# Altium footprint library Footprints.PcbLib: 146 footprints (part 7 of 10)
Each footprint in its own frame and in the unit in brackets; x right, y up, seen from the top. Pads: shape width x height; smd on the part's side, far side on the other; paste and mask are expansions set on the pad; w line width, h text height; cw(c..) or ccw(c..) is an arc to the next point about the centre after c.
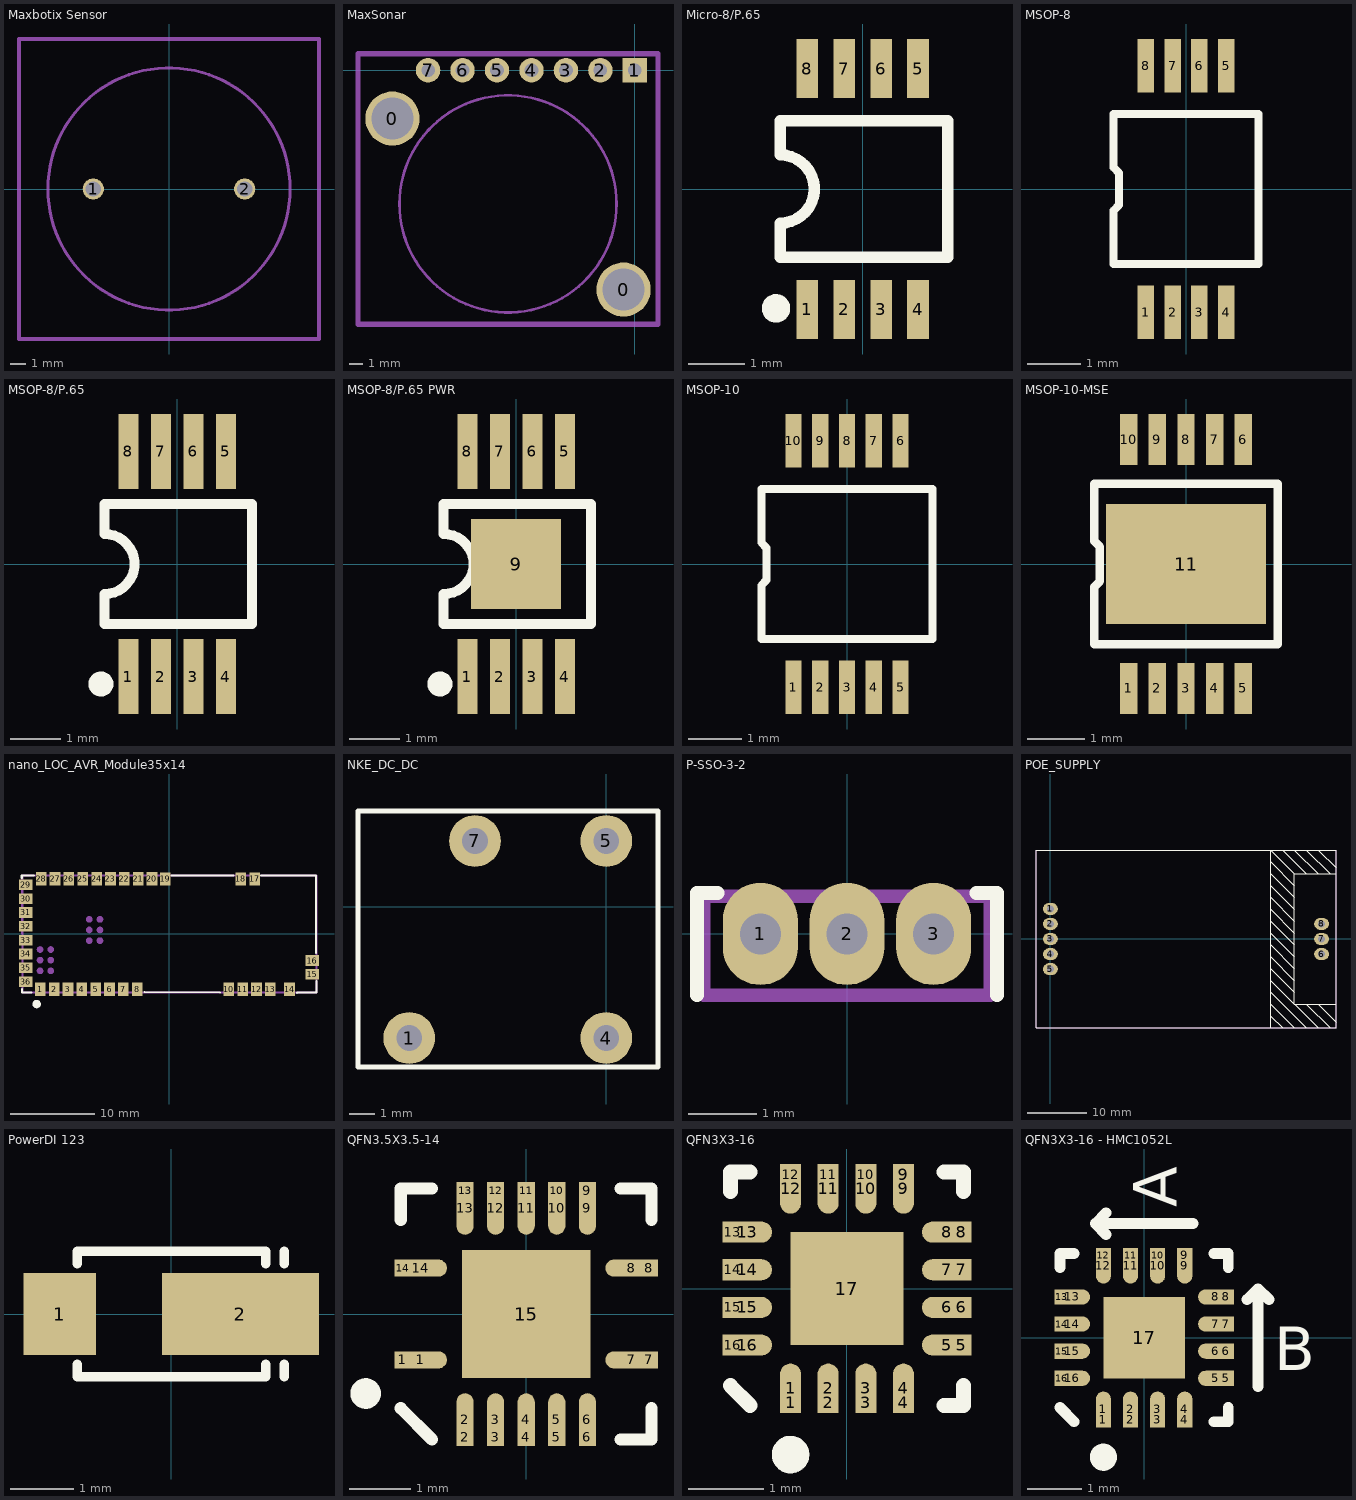
[diagram p6: the footprints below, top view; thin cyan lines are the x and y axes]

## Maxbotix Sensor [mm] "Maxbotix Ultrasonic Sensor"
height 16
pads (2):
  round 1.4 hole 1: 1(-5,0) 2(5,0)
Mechanical 1:
  circle w0.2: c0,0 r8
  lines w0.254: -9.906,-9.906 -9.906,9.906 9.906,9.906 9.906,-9.906 -9.906,-9.906

## MaxSonar [mm] "MaxSonar Module"
height 16
pads (9):
  round 4 hole 3.1: 0(-17.86,-3.56) 0(-0.84,-16.16)
  rect 1.8x1.8 hole 1: 1(0,0)
  round 1.8 hole 1: 2(-2.54,0) 3(-5.08,0) 4(-7.62,0) 5(-10.16,0) 6(-12.7,0) 7(-15.24,0)
Mechanical 1:
  circle w0.2: c-9.35,-9.85 r8
  lines w0.4: -20.4,-18.7 -20.4,1.2 1.7,1.2 1.7,-18.7 -20.4,-18.7

## Micro-8/P.65 [mm] "MSOP, Plastic; 8 Leads; Pitch 0.65 mm"
height 2
pads (8):
  rect 0.38x1.04 smd: 1(-0.975,-2.12) 2(-0.325,-2.12) 3(0.325,-2.12) 4(0.975,-2.12) 5(0.975,2.12) 6(0.325,2.12) 7(-0.325,2.12) 8(-0.975,2.12)
Top Overlay:
  circle w0.25: c-1.525,-2.1 r0.125
  lines w0.2: -1.45,-1.2 -1.45,-0.6 ccw(c-1.45,0) -1.45,0.6 -1.45,1.2 1.5,1.2 1.5,-1.2 -1.45,-1.2

## MSOP-8 [mm]
pads (8):
  rect 0.305x1 smd: 1(-0.75,-2.3) 2(-0.25,-2.3) 3(0.25,-2.3) 4(0.75,-2.3) 5(0.75,2.3) 6(0.25,2.3) 7(-0.25,2.3) 8(-0.75,2.3)
Top Overlay:
  lines w0.15: -1.35,-1.4 1.35,-1.4 1.35,1.4 -1.35,1.4 -1.35,0.4 -1.25,0.3 -1.25,-0.3 -1.35,-0.4 -1.35,-1.4

## MSOP-8/P.65 [mm] "MSOP, Plastic; 8 Leads; Pitch 0.65 mm"
height 2
pads (8):
  rect 0.4x1.5 smd: 1(-0.975,-2.25) 2(-0.325,-2.25) 3(0.325,-2.25) 4(0.975,-2.25) 5(0.975,2.25) 6(0.325,2.25) 7(-0.325,2.25) 8(-0.975,2.25)
Top Overlay:
  circle w0.25: c-1.525,-2.4 r0.125
  lines w0.2: -1.45,-1.2 -1.45,-0.6 ccw(c-1.45,0) -1.45,0.6 -1.45,1.2 1.5,1.2 1.5,-1.2 -1.45,-1.2

## MSOP-8/P.65 PWR [mm] "MSOP, Plastic; 8 Leads; Pitch 0.65 mm"
height 2
pads (9):
  rect 0.4x1.5 smd: 1(-0.975,-2.25) 2(-0.325,-2.25) 3(0.325,-2.25) 4(0.975,-2.25) 5(0.975,2.25) 6(0.325,2.25) 7(-0.325,2.25) 8(-0.975,2.25)
  rect 1.8x1.8 smd: 9(0,0)
Top Overlay:
  circle w0.25: c-1.525,-2.4 r0.125
  lines w0.2: -1.45,-1.2 -1.45,-0.6 ccw(c-1.45,0) -1.45,0.6 -1.45,1.2 1.5,1.2 1.5,-1.2 -1.45,-1.2

## MSOP-10 [mm]
pads (10):
  rect 0.305x1 smd: 1(-1,-2.3) 2(-0.5,-2.3) 3(0,-2.3) 4(0.5,-2.3) 5(1,-2.3) 6(1,2.3) 7(0.5,2.3) 8(0,2.3) 9(-0.5,2.3) 10(-1,2.3)
Top Overlay:
  lines w0.15: -1.6,-1.4 -1.6,-0.4 -1.5,-0.3 -1.5,0.3 -1.6,0.4 -1.6,1.4 1.6,1.4 1.6,-1.4 -1.6,-1.4

## MSOP-10-MSE [mm]
pads (11):
  rect 0.305x0.889 smd: 1(-1,-2.17) 2(-0.5,-2.17) 3(0,-2.17) 4(0.5,-2.17) 5(1,-2.17) 6(1,2.17) 7(0.5,2.17) 8(0,2.17) 9(-0.5,2.17) 10(-1,2.17)
  rect 2.794x2.083 smd: 11(0,0)
Top Overlay:
  lines w0.15: -1.6,-1.4 -1.6,-0.4 -1.5,-0.3 -1.5,0.3 -1.6,0.4 -1.6,1.4 1.6,1.4 1.6,-1.4 -1.6,-1.4

## nano_LOC_AVR_Module35x14 [mm] "Footprint for the nano_LOC_AVR_Module"
height 1.1
pads (47):
  round 0.8 on Mech1: 1(-15.37,-1.86) 2(-14.1,-1.86) 3(-14.1,-3.13) 4(-14.1,-4.4) 5(-15.37,-4.4) 6(-15.37,-3.13) 7(-9.5,1.74) 8(-8.23,1.74) 9(-8.23,0.47) 10(-8.23,-0.8) 11(-9.5,-0.8) 12(-9.5,0.47)
  rect 1.27x1.6 smd: 1(-15.34,-6.6) 2(-13.69,-6.6) 3(-12.04,-6.6) 4(-10.39,-6.6) 5(-8.74,-6.6) 6(-7.09,-6.6) 7(-5.44,-6.6) 8(-3.79,-6.6) 10(7.13,-6.6) 11(8.78,-6.6) 12(10.43,-6.6) 13(12.08,-6.6) 14(14.37,-6.6) 17(10.22,6.55) 18(8.57,6.55) 19(-0.45,6.55) 20(-2.03,6.6) 21(-3.68,6.6) 22(-5.33,6.6) 23(-6.98,6.6) 24(-8.63,6.6) 25(-10.28,6.6) 26(-11.93,6.6) 27(-13.58,6.6) 28(-15.23,6.6)
  rect 1.6x1.27 smd: 15(17.08,-4.825) 16(17.08,-3.175) 29(-17.08,5.86) 30(-17.08,4.21) 31(-17.08,2.56) 32(-17.08,0.91) 33(-17.08,-0.74) 34(-17.08,-2.39) 35(-17.08,-4.04) 36(-17.08,-5.69)
Top Overlay:
  circle w0.5: c-15.78,-8.36 r0.25
  lines w0.254: -17.555,6.685 -17.555,6.985 -17.455,6.96 -16.105,6.985 ; -17.53,-6.565 -17.53,-6.99 -16.405,-6.99 ; -2.93,-6.94 6.07,-6.99 ; 0.295,6.985 7.67,6.985 ; 10.995,6.985 17.52,6.935 17.52,-2.265 ; 15.27,-7.015 17.57,-6.965 17.57,-5.59
Mechanical 1:
  lines w0.254: -17.5,6.95 17.575,6.95 17.575,-7 -17.475,-7 -17.5,6.95

## NKE_DC_DC [mm] "DC-DC module"
height 5.4
pads (4):
  round 2 hole 1: 1(-7.62,-5.08) 4(0,-5.08) 5(0,2.54) 7(-5.08,2.54)
Top Overlay:
  lines w0.2: -9.6,-6.2 2,-6.2 2,3.7 -9.6,3.7 -9.6,-6.2

## P-SSO-3-2 [mm] "Magnetic field sensor"
height 3.29
pads (3):
  oval 1.1x1.5 hole 0.6: 1(-1.27,0) 2(0,0) 3(1.27,0)
Top Overlay:
  lines w0.2: -2.2,-0.9 -2.2,0.6 -1.9,0.6 ; 1.9,0.6 2.2,0.6 2.2,-0.9
Mechanical 1:
  lines w0.2: -2.1,-0.9 -2.1,0.55 2.1,0.55 2.1,-0.9 -2.1,-0.9

## POE_SUPPLY [mm] "Power Over Ethernet Power Supply"
height 15.7
pads (8):
  oval 2.5x2 hole 1.15: 1(0,5.08) 2(0,2.54) 3(0,0) 4(0,-2.54) 5(0,-5.08) 6(45.72,-2.54) 7(45.72,0) 8(45.72,2.54)
Top Overlay:
  lines w0.2: 37.16,-15 37.16,15 41.16,11 ; 37.16,-13 39.16,-15 ; 37.16,-11 41.16,-15 ; 37.16,-9 43.16,-15 ; 37.16,-7 45.16,-15 ; 37.16,-5 41.16,-9 ; 37.16,-3 41.16,-7 ; 37.16,-1 41.16,-5 ; 37.16,1 41.16,-3 ; 37.16,3 41.16,-1 ; 37.16,5 41.16,1 ; 37.16,7 41.16,3 ; 37.16,9 41.16,5 ; 37.16,11 41.16,7 ; 37.16,13 41.16,9 ; 39.16,15 43.16,11 ; 41.16,15 45.16,11 ; 43.16,-11 47.16,-15 ; 43.16,15 47.16,11 ; 45.16,-11 48.16,-14 ; 45.16,15 48.16,12 ; 48.16,-11 41.16,-11 41.16,11 ; 48.16,11 41.16,11 ; -2.44,-15 -2.44,15 48.16,15 48.16,-15 -2.44,-15
Mechanical 1:
  lines w0.2: -2.44,-15 -2.44,15 48.16,15 48.16,-15 -2.44,-15

## PowerDI 123 [mm] "SMD Diode"
pads (2):
  rect 1.15x1.3 smd: 1(-1.775,0)
  rect 2.5x1.3 smd: 2(1.1,0)
Top Overlay:
  lines w0.15: -1.5,-0.8 -1.5,-1 1.5,-1 1.5,-0.8 ; -1.5,0.8 -1.5,1 1.5,1 1.5,0.8 ; 1.8,-1 1.8,-0.8 ; 1.8,0.8 1.8,1

## QFN3.5X3.5-14 [mm] "Quad Flat No Lead; 14 Terminals; Body 3.5 x 3.5 mm; Pitch 0.5 mm"
height 1
pads (29):
  rect 0.28x0.28 smd: 1(-2.015,-0.75) 2(-1,-2.015) 3(-0.5,-2.015) 4(0,-2.015) 5(0.5,-2.015) 6(1,-2.015) 7(2.015,-0.75) 8(2.015,0.75) 9(1,2.015) 10(0.5,2.015) 11(0,2.015) 12(-0.5,2.015) 13(-1,2.015) 14(-2.015,0.75)
  oval 0.86x0.28 smd: 1(-1.725,-0.75) 7(1.725,-0.75) 8(1.725,0.75) 14(-1.725,0.75)
  oval 0.28x0.86 smd: 2(-1,-1.725) 3(-0.5,-1.725) 4(0,-1.725) 5(0.5,-1.725) 6(1,-1.725) 9(1,1.725) 10(0.5,1.725) 11(0,1.725) 12(-0.5,1.725) 13(-1,1.725)
  rect 2.1x2.1 smd: 15(0,0)
Top Overlay:
  circle w0.25: c-2.625,-1.3 r0.125
  lines w0.2: -2.05,-1.54 -1.54,-2.05 ; -2.05,1.54 -2.05,2.05 -1.54,2.05 ; 1.54,-2.05 2.05,-2.05 2.05,-1.54 ; 1.54,2.05 2.05,2.05 2.05,1.54

## QFN3X3-16 [mm] "Quad Flat No Lead, Plastic; 16 Terminals; Body 3 x 3 mm; Pitch 0.5 mm"
height 0.8
pads (33):
  rect 0.28x0.28 smd: 1(-0.75,-1.515) 2(-0.25,-1.515) 3(0.25,-1.515) 4(0.75,-1.515) 5(1.515,-0.75) 6(1.515,-0.25) 7(1.515,0.25) 8(1.515,0.75) 9(0.75,1.515) 10(0.25,1.515) 11(-0.25,1.515) 12(-0.75,1.515) 13(-1.515,0.75) 14(-1.515,0.25) 15(-1.515,-0.25) 16(-1.515,-0.75)
  oval 0.28x0.66 smd: 1(-0.75,-1.325) 2(-0.25,-1.325) 3(0.25,-1.325) 4(0.75,-1.325) 9(0.75,1.325) 10(0.25,1.325) 11(-0.25,1.325) 12(-0.75,1.325)
  oval 0.66x0.28 smd: 5(1.325,-0.75) 6(1.325,-0.25) 7(1.325,0.25) 8(1.325,0.75) 13(-1.325,0.75) 14(-1.325,0.25) 15(-1.325,-0.25) 16(-1.325,-0.75)
  rect 1.5x1.5 smd: 17(0,0)
Top Overlay:
  circle w0.25: c-0.75,-2.205 r0.125
  lines w0.2: -1.55,-1.29 -1.29,-1.55 ; -1.55,1.29 -1.55,1.55 -1.29,1.55 ; 1.29,-1.55 1.55,-1.55 1.55,-1.29 ; 1.29,1.55 1.55,1.55 1.55,1.29

## QFN3X3-16 - HMC1052L [mm] "Quad Flat No Lead, Plastic; 16 Terminals; Body 3 x 3 mm; Pitch 0.5 mm"
height 0.8
pads (33):
  rect 0.28x0.28 smd: 1(-0.75,-1.515) 2(-0.25,-1.515) 3(0.25,-1.515) 4(0.75,-1.515) 5(1.515,-0.75) 6(1.515,-0.25) 7(1.515,0.25) 8(1.515,0.75) 9(0.75,1.515) 10(0.25,1.515) 11(-0.25,1.515) 12(-0.75,1.515) 13(-1.515,0.75) 14(-1.515,0.25) 15(-1.515,-0.25) 16(-1.515,-0.75)
  oval 0.28x0.66 smd: 1(-0.75,-1.325) 2(-0.25,-1.325) 3(0.25,-1.325) 4(0.75,-1.325) 9(0.75,1.325) 10(0.25,1.325) 11(-0.25,1.325) 12(-0.75,1.325)
  oval 0.66x0.28 smd: 5(1.325,-0.75) 6(1.325,-0.25) 7(1.325,0.25) 8(1.325,0.75) 13(-1.325,0.75) 14(-1.325,0.25) 15(-1.325,-0.25) 16(-1.325,-0.75)
  rect 1.5x1.5 smd: 17(0,0)
Top Overlay:
  circle w0.25: c-0.75,-2.205 r0.125
  lines w0.2: -1.55,-1.29 -1.29,-1.55 ; -1.55,1.29 -1.55,1.55 -1.29,1.55 ; -0.7,1.9 -0.9,2.1 ; -0.7,2.3 -0.9,2.1 ; 0.9,2.1 -0.9,2.1 ; 1.29,-1.55 1.55,-1.55 1.55,-1.29 ; 1.29,1.55 1.55,1.55 1.55,1.29 ; 1.9,0.7 2.1,0.9 ; 2.1,-0.9 2.1,0.9 ; 2.3,0.7 2.1,0.9 ; -0.9,2.1 -0.9,2.1 ; -0.9,2.1 -0.9,2.1 ; 2.1,0.9 2.1,0.9 ; 2.1,0.9 2.1,0.9
  text "B" at 2.4,-0.6 h0.8
  text "A" at 0.6,2.4 h0.8